# Altium footprint library PCB.PcbLib: 41 footprints (part 3 of 3)
Each footprint in its own frame and in the unit in brackets; x right, y up, seen from the top. Pads: shape width x height; smd on the part's side, far side on the other; paste and mask are expansions set on the pad; w line width, h text height; cw(c..) or ccw(c..) is an arc to the next point about the centre after c.
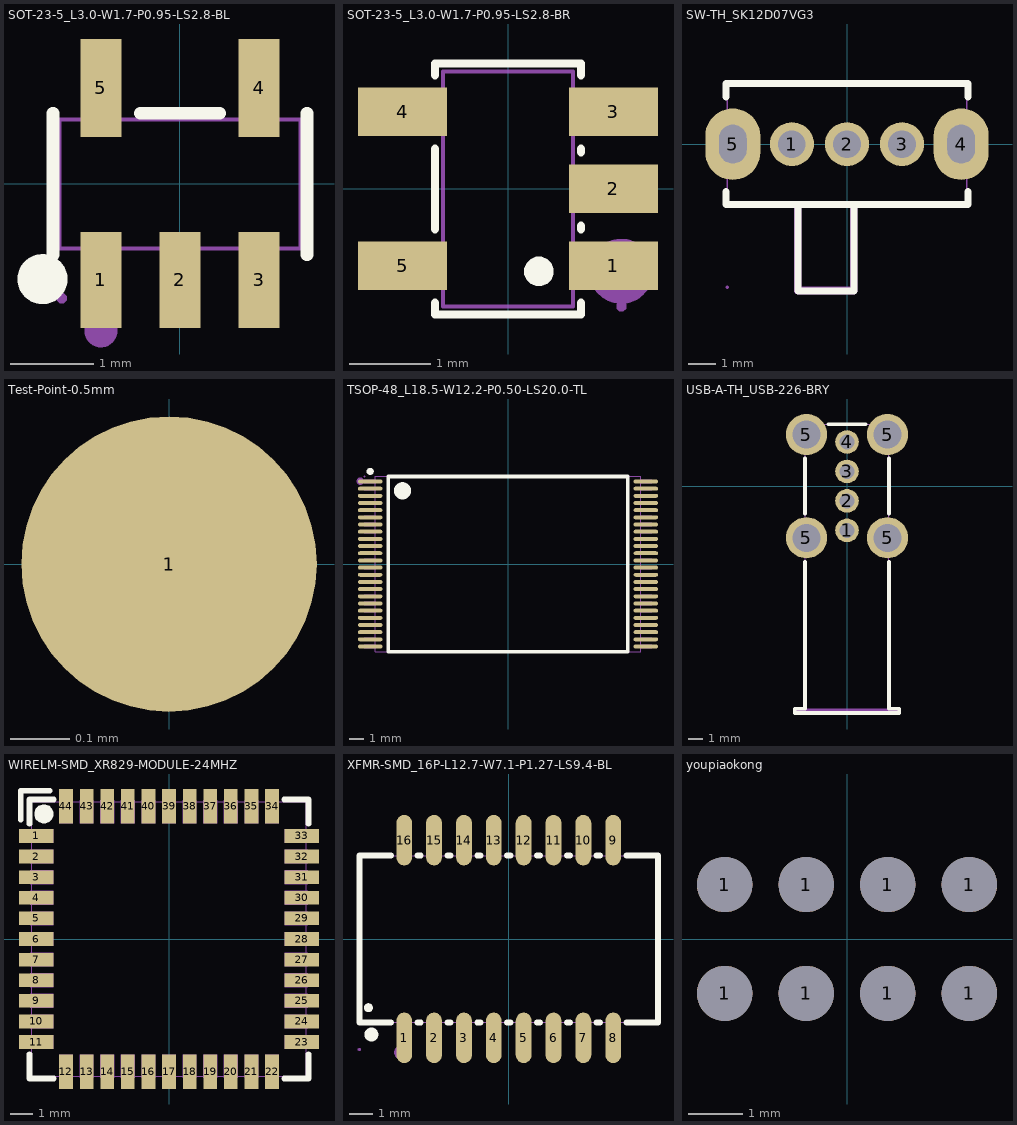
[diagram p2: the footprints below, top view; thin cyan lines are the x and y axes]

## SOT-23-5_L3.0-W1.7-P0.95-LS2.8-BL [mil]
pads (5):
  rect 19.3x45.6 smd: 1(-37.4,-45.4) 2(0,-45.4) 3(37.4,-45.4)
  rect 19.3x46.3 smd: 4(37.4,45.4) 5(-37.4,45.4)
Top Overlay:
  circle w11.8: c-65,-45 r5.9
  lines w6: -60,-33.5 -60,33.5 ; -18.7,33.5 18.8,33.5 ; 60.1,-33.5 60.1,33.5
Mechanical 6:
  circle w7.9: c-37.4,-69.4 r3.9
Mechanical 7:
  lines w2: -57,-30.5 57.1,-30.5 57.1,30.5 -57,30.5 -57,-30.5
Mechanical 8:
  region: -53.5,-54 -53.5,-54.99 -54.91,-56.4 -56.89,-56.4 -58.3,-54.99 -58.3,-54 -58.3,-53.01 -56.89,-51.6 -54.91,-51.6 -53.5,-53.01 -53.5,-54
Mechanical 9:
  region: -44.2,39.3 -44.2,55.1 -30.5,55.1 -30.5,39.3
  region: 30.6,39.3 30.6,55.1 44.3,55.1 44.3,39.3
  region: 30.6,-55.1 30.6,-39.4 44.3,-39.4 44.3,-55.1
  region: -6.8,-55.1 -6.8,-39.4 6.9,-39.4 6.9,-55.1
  region: -44.2,-55.1 -44.2,-39.4 -30.5,-39.4 -30.5,-55.1
Mechanical 10:
  region: -44.2,29.1 -44.2,39.7 -30.5,39.7 -30.5,29.1
  region: 30.6,29.1 30.6,39.7 44.3,39.7 44.3,29.1
  region: 30.6,-39.8 30.6,-29.2 44.3,-29.2 44.3,-39.8
  region: -6.8,-39.8 -6.8,-29.2 6.9,-29.2 6.9,-39.8
  region: -44.2,-39.8 -44.2,-29.2 -30.5,-29.2 -30.5,-39.8

## SOT-23-5_L3.0-W1.7-P0.95-LS2.8-BR [mil]
pads (5):
  rect 43.3x23.6 smd: 1(51.2,-37.4) 2(51.2,0) 3(51.2,37.4) 4(-51.2,37.4) 5(-51.2,-37.4)
Top Overlay:
  region: 8,-40.09 7.98,-38.68 9.03,-36.08 11.01,-34.08 13.6,-33 16.4,-33 18.99,-34.08 20.97,-36.08 22.02,-38.68 22,-40.09 22,-40.01 22.02,-41.42 20.97,-44.02 18.99,-46.02 16.4,-47.1 13.6,-47.1 11.01,-46.02 9.03,-44.02 7.98,-41.42 8,-40.01 8,-40.1
  lines w3.9: -35.4,-55.3 -35.4,-61.1 35.4,-61.1 35.4,-55.3 ; -35.4,-19.6 -35.4,19.5 ; -35.4,55.2 -35.4,61 35.4,61 35.4,55.2 ; 35.4,-19.6 35.4,-17.9 ; 35.4,17.8 35.4,19.5
Mechanical 6:
  circle w15.7: c55,-40 r7.9
Mechanical 7:
  lines w2: -31.5,-57.1 31.5,-57.1 31.5,57 -31.5,57 -31.5,-57.1
Mechanical 8:
  region: 57.5,-57.1 57.5,-58.09 56.09,-59.5 54.11,-59.5 52.7,-58.09 52.7,-57.1 52.7,-56.11 54.11,-54.7 56.09,-54.7 57.5,-56.11 57.5,-57.1
Mechanical 9:
  region: 37.4,-45.3 37.4,-29.6 55.1,-29.6 55.1,-45.3
  region: 37.4,-7.9 37.4,7.8 55.1,7.8 55.1,-7.9
  region: 37.4,29.5 37.4,45.2 55.1,45.2 55.1,29.5
  region: -55.1,29.5 -55.1,45.2 -37.4,45.2 -37.4,29.5
  region: -55.1,-45.3 -55.1,-29.6 -37.4,-29.6 -37.4,-45.3
Mechanical 10:
  region: 31.1,-45.3 31.1,-29.6 37.8,-29.6 37.8,-45.3
  region: 31.1,-7.9 31.1,7.8 37.8,7.8 37.8,-7.9
  region: 31.1,29.5 31.1,45.2 37.8,45.2 37.8,29.5
  region: -37.8,29.5 -37.8,45.2 -31.1,45.2 -31.1,29.5
  region: -37.8,-45.3 -37.8,-29.6 -31.1,-29.6 -31.1,-45.3

## SW-TH_SK12D07VG3 [mil]
pads (5):
  round 63 hole 39.4: 1(-78.8,0) 2(0,0) 3(78.7,0)
  oval 78.7x102.4 hole 39.4 slot 55.1 at 90 deg: 4(163.4,0) 5(-163.4,0)
Top Overlay:
  lines w10: -173.3,-67.5 -173.3,-86.6 173.2,-86.6 173.2,-67.5 ; -173.3,67.5 -173.3,86.6 173.2,86.6 173.2,67.5 ; -70.3,-86.6 -70.3,-210 10,-210 10,-86.6
Mechanical 6:
  region: -65.3,-86.6 -65.3,-205 5,-205 5,-86.6 5,-84.53 7.93,-81.6 12.07,-81.6 15,-84.53 15,-86.6 15,-210 15,-210.99 14.24,-212.83 12.83,-214.24 10.99,-215 10,-215 -70.3,-215 -71.29,-215 -73.13,-214.24 -74.54,-212.83 -75.3,-210.99 -75.3,-210 -75.3,-86.6 -75.3,-84.53 -72.37,-81.6 -68.23,-81.6 -65.3,-84.53 -65.3,-86.6
Mechanical 7:
  lines w2: -171.3,-86.6 -171.3,86.6 171.2,86.6 171.2,-86.6 7.2,-86.6 7.2,-204.7 -71.5,-204.7 -71.5,-86.6 -171.3,-86.6
Mechanical 8:
  region: -168.9,-204.7 -168.9,-205.69 -170.31,-207.1 -172.29,-207.1 -173.7,-205.69 -173.7,-204.7 -173.7,-203.71 -172.29,-202.3 -170.31,-202.3 -168.9,-203.71 -168.9,-204.7
Mechanical 9:
  region: 88.5,5.9 88.5,-5.9 68.9,-5.9 68.9,5.9
  region: 9.8,5.9 9.8,-5.9 -9.9,-5.9 -9.9,5.9
  region: -68.9,5.9 -68.9,-5.9 -88.6,-5.9 -88.6,5.9
  region: 155.5,-23.6 155.5,23.6 171.2,23.6 171.2,-23.6
  region: -171.3,-23.6 -171.3,23.6 -155.6,23.6 -155.6,-23.6

## Test-Point-0.5mm [mil]
pads (1):
  round 19.7 smd: 1(0,0)

## TSOP-48_L18.5-W12.2-P0.50-LS20.0-TL [mil]
pads (48):
  oval 66.9x11 smd mask+2: 1(-378,226.4) 2(-378,206.7) 3(-378,187) 4(-378,167.3) 5(-378,147.6) 6(-378,127.9) 7(-378,108.3) 8(-378,88.6) 9(-378,68.9) 10(-378,49.2) 11(-378,29.5) 12(-378,9.8) 13(-378,-9.9) 14(-378,-29.5) 15(-378,-49.2) 16(-378,-68.9) 17(-378,-88.6) 18(-378,-108.3) 19(-378,-128) 20(-378,-147.7) 21(-378,-167.3) 22(-378,-187) 23(-378,-206.7) 24(-378,-226.4) 25(377.9,-226.4) 26(377.9,-206.7) 27(377.9,-187) 28(377.9,-167.3) 29(377.9,-147.7) 30(377.9,-128) 31(377.9,-108.3) 32(377.9,-88.6) 33(377.9,-68.9) 34(377.9,-49.2) 35(377.9,-29.5) 36(377.9,-9.9) 37(377.9,9.8) 38(377.9,29.5) 39(377.9,49.2) 40(377.9,68.9) 41(377.9,88.6) 42(377.9,108.3) 43(377.9,127.9) 44(377.9,147.6) 45(377.9,167.3) 46(377.9,187) 47(377.9,206.7) 48(377.9,226.4)
Top Overlay:
  lines w9.8: -378.05,258.9 ccw(c-378,254) -377.95,258.9
  lines w10: -328.7,-240.2 -328.7,240.1 328.7,240.1 328.7,-240.2 -328.7,-240.2
  lines w23.6: -289.4,212.6 ccw(c-289.3,200.8) -289.2,212.6
Mechanical 6:
  circle w10: c-405.1,227.1 r5
Mechanical 7:
  lines w2: -364.2,-240.2 -364.2,240.1 364.2,240.1 364.2,-240.2 -364.2,-240.2
Mechanical 8:
  region: -391.3,240.1 -391.3,239.11 -392.71,237.7 -394.69,237.7 -396.1,239.11 -396.1,240.1 -396.1,241.09 -394.69,242.5 -392.71,242.5 -391.3,241.09 -391.3,240.1
Mechanical 9:
  drawing of 48 lines, arcs and shapes, not listed
Mechanical 10:
  drawing of 50 lines, arcs and shapes, not listed

## USB-A-TH_USB-226-BRY [mil]
pads (8):
  round 63 hole 39.4: 1(0,-118.1) 2(0,-39.3) 3(0,39.4) 4(0,118.1)
  round 110.2 hole 74.8: 5(-108.3,-137.8) 5(-108.3,137.8) 5(108.3,-137.8) 5(108.3,137.8)
Top Overlay:
  lines w10: -112.2,-201.9 -112.2,-594.5 -139.8,-594.5 -139.8,-606.3 139.8,-606.3 139.8,-594.5 112.2,-594.5 112.2,-201.9 ; -112.2,-73.7 -112.2,73.7 ; -50.3,165.4 50.3,165.4 ; 112.2,-73.7 112.2,73.7
Mechanical 6:
  region: -116.9,-201.9 -107.5,-201.9 -107.5,-593.7 -116.9,-593.7
  region: 107.5,-201.9 116.9,-201.9 116.9,-593.7 107.5,-593.7
  region: -139.8,-594.1 -139.8,-605.9 139.8,-605.9 139.8,-594.1
Mechanical 7:
  lines w2: -139.8,-606.3 -139.8,-594.4 -112.2,-594.4 -112.2,165.4 112.2,165.4 112.2,-594.4 139.8,-594.4 139.8,-606.3 -139.8,-606.3
Mechanical 8:
  region: 142.2,-606.3 142.2,-607.29 140.79,-608.7 138.81,-608.7 137.4,-607.29 137.4,-606.3 137.4,-605.31 138.81,-603.9 140.79,-603.9 142.2,-605.31 142.2,-606.3 142.1,-606.3
Mechanical 9:
  region: -4.9,-110.2 4.9,-110.2 4.9,-125.9 -4.9,-125.9
  region: -4.9,-31.5 4.9,-31.5 4.9,-47.2 -4.9,-47.2
  region: -4.9,47.3 4.9,47.3 4.9,31.5 -4.9,31.5
  region: -4.9,126 4.9,126 4.9,110.3 -4.9,110.3
  region: -114.2,118.2 -114.2,165.4 -102.4,165.4 -102.4,118.2
  region: -114.2,-161.4 -114.2,-114.1 -102.4,-114.1 -102.4,-161.4
  region: 102.4,-161.4 102.4,-114.1 114.2,-114.1 114.2,-161.4
  region: 102.4,118.2 102.4,165.4 114.2,165.4 114.2,118.2
Mechanical 10:
  region: 102.4,-114.2 102.4,-161.4 139.8,-161.4 139.8,-114.1
  region: -102.4,-161.3 -102.4,-114.1 -139.8,-114.1 -139.8,-161.4
  region: -102.4,118.2 -102.4,165.4 -139.8,165.4 -139.8,118.1
  region: 102.4,165.4 102.4,118.1 139.8,118.1 139.8,165.4

## WIRELM-SMD_XR829-MODULE-24MHZ [mil]
pads (44):
  rect 59.1x23.6 smd: 1(-228.4,177.2) 2(-228.4,141.8) 3(-228.4,106.3) 4(-228.4,70.9) 5(-228.4,35.5) 6(-228.4,0) 7(-228.4,-35.4) 8(-228.4,-70.8) 9(-228.4,-106.3) 10(-228.4,-141.7) 11(-228.4,-177.1) 23(228.3,-177.1) 24(228.3,-141.7) 25(228.3,-106.3) 26(228.3,-70.8) 27(228.3,-35.4) 28(228.3,0) 29(228.3,35.5) 30(228.3,70.9) 31(228.3,106.3) 32(228.3,141.8) 33(228.3,177.2)
  rect 23.6x59.1 smd: 12(-177.2,-228.3) 13(-141.7,-228.3) 14(-106.3,-228.3) 15(-70.9,-228.3) 16(-35.4,-228.3) 17(0,-228.3) 18(35.4,-228.3) 19(70.9,-228.3) 20(106.3,-228.3) 21(141.7,-228.3) 22(177.2,-228.3) 34(177.2,228.4) 35(141.7,228.4) 36(106.3,228.4) 37(70.9,228.4) 38(35.4,228.4) 39(0,228.4) 40(-35.4,228.4) 41(-70.9,228.4) 42(-106.3,228.4) 43(-141.7,228.4) 44(-177.2,228.4)
Top Overlay:
  region: -231.2,215 -231.2,218.22 -228.73,224.18 -224.18,228.73 -218.22,231.2 -211.78,231.2 -205.82,228.73 -201.27,224.18 -198.8,218.22 -198.8,215 -198.8,211.78 -201.27,205.82 -205.82,201.27 -211.78,198.8 -218.22,198.8 -224.18,201.27 -228.73,205.82 -231.2,211.78 -231.2,215
  lines w10: -255,205 -255,255 -205,255 ; -240,-198.1 -240,-240 -198.1,-240 ; -240,198.1 -240,240 -198.1,240 ; 198.1,-240 240,-240 240,-198.1 ; 198.1,240 240,240 240,198.1
Mechanical 6:
  circle w10: c-215,214.6 r5
Mechanical 7:
  lines w2: -236.2,-236.2 -236.2,236.2 236.2,236.2 236.2,-236.2 -236.2,-236.2
Mechanical 8:
  region: -235.8,238.2 -235.8,237.21 -237.21,235.8 -239.19,235.8 -240.6,237.21 -240.6,238.2 -240.6,239.19 -239.19,240.6 -237.21,240.6 -235.8,239.19 -235.8,238.2
Mechanical 9:
  drawing of 44 lines, arcs and shapes, not listed

## XFMR-SMD_16P-L12.7-W7.1-P1.27-LS9.4-BL [mil]
pads (16):
  oval 26.5x84.5 smd: 1(-175,-165.5) 2(-125,-165.5) 3(-75,-165.5) 4(-25,-165.5) 5(25,-165.5) 6(75,-165.5) 7(125,-165.5) 8(175,-165.5) 9(175,165.5) 10(125,165.5) 11(75,165.5) 12(25,165.5) 13(-25,165.5) 14(-75,165.5) 15(-125,165.5) 16(-175,165.5)
Top Overlay:
  circle w7.5: c-235,-115 r3.7
  circle w11.8: c-230,-160 r5.9
  lines w10: -197.3,-140 -250,-140 -250,140 -197.3,140 ; -152.7,-140 -147.3,-140 ; -152.7,140 -147.3,140 ; -102.7,-140 -97.3,-140 ; -102.7,140 -97.3,140 ; -52.7,-140 -47.3,-140 ; -52.7,140 -47.3,140 ; -2.7,-140 2.7,-140 ; -2.7,140 2.7,140 ; 47.3,-140 52.7,-140 ; 47.3,140 52.7,140 ; 97.3,-140 102.7,-140 ; 97.3,140 102.7,140 ; 147.3,-140 152.7,-140 ; 147.3,140 152.7,140 ; 197.3,-140 250,-140 250,140 197.3,140
Mechanical 6:
  circle w11.8: c-180,-190 r5.9
Mechanical 7:
  lines w2: -250,-139.8 250,-139.8 250,139.8 -250,139.8 -250,-139.8
Mechanical 8:
  region: -247.6,-185 -247.6,-185.99 -249.01,-187.4 -250.99,-187.4 -252.4,-185.99 -252.4,-185 -252.4,-184.01 -250.99,-182.6 -249.01,-182.6 -247.6,-184.01 -247.6,-185 -247.7,-185
Mechanical 9:
  region: -184.9,149.6 -184.9,185 -165.2,185 -165.2,149.6
  region: -134.9,149.6 -134.9,185 -115.2,185 -115.2,149.6
  region: -84.9,149.6 -84.9,185 -65.2,185 -65.2,149.6
  region: -34.9,149.6 -34.9,185 -15.2,185 -15.2,149.6
  region: 15.1,149.6 15.1,185 34.8,185 34.8,149.6
  region: 65.1,149.6 65.1,185 84.8,185 84.8,149.6
  region: 115.1,149.6 115.1,185 134.8,185 134.8,149.6
  region: 165.1,149.6 165.1,185 184.8,185 184.8,149.6
  region: 165.1,-185 165.1,-149.6 184.8,-149.6 184.8,-185
  region: 115.1,-185 115.1,-149.6 134.8,-149.6 134.8,-185
  region: 65.1,-185 65.1,-149.6 84.8,-149.6 84.8,-185
  region: 15.1,-185 15.1,-149.6 34.8,-149.6 34.8,-185
  region: -34.9,-185 -34.9,-149.6 -15.2,-149.6 -15.2,-185
  region: -84.9,-185 -84.9,-149.6 -65.2,-149.6 -65.2,-185
  region: -134.9,-185 -134.9,-149.6 -115.2,-149.6 -115.2,-185
  region: -184.9,-185 -184.9,-149.6 -165.2,-149.6 -165.2,-185
Mechanical 10:
  region: -184.9,139.4 -184.9,150 -165.2,150 -165.2,139.4
  region: -134.9,139.4 -134.9,150 -115.2,150 -115.2,139.4
  region: -84.9,139.4 -84.9,150 -65.2,150 -65.2,139.4
  region: -34.9,139.4 -34.9,150 -15.2,150 -15.2,139.4
  region: 15.1,139.4 15.1,150 34.8,150 34.8,139.4
  region: 65.1,139.4 65.1,150 84.8,150 84.8,139.4
  region: 115.1,139.4 115.1,150 134.8,150 134.8,139.4
  region: 165.1,139.4 165.1,150 184.8,150 184.8,139.4
  region: 165.1,-150 165.1,-139.4 184.8,-139.4 184.8,-150
  region: 115.1,-150 115.1,-139.4 134.8,-139.4 134.8,-150
  region: 65.1,-150 65.1,-139.4 84.8,-139.4 84.8,-150
  region: 15.1,-150 15.1,-139.4 34.8,-139.4 34.8,-150
  region: -34.9,-150 -34.9,-139.4 -15.2,-139.4 -15.2,-150
  region: -84.9,-150 -84.9,-139.4 -65.2,-139.4 -65.2,-150
  region: -134.9,-150 -134.9,-139.4 -115.2,-139.4 -115.2,-150
  region: -184.9,-150 -184.9,-139.4 -165.2,-139.4 -165.2,-150

## youpiaokong [mil]
pads (8):
  round 40 hole 40 unplated paste-99999 mask+0: 1(-88.58,-39.37) 1(-88.58,39.37) 1(-29.53,-39.37) 1(-29.53,39.37) 1(29.53,-39.37) 1(29.53,39.37) 1(88.58,-39.37) 1(88.58,39.37)